# Altium footprint library PcbLib1.PcbLib: 2 footprints
Each footprint in its own frame and in the unit in brackets; x right, y up, seen from the top. Pads: shape width x height; smd on the part's side, far side on the other; paste and mask are expansions set on the pad; w line width, h text height; cw(c..) or ccw(c..) is an arc to the next point about the centre after c.
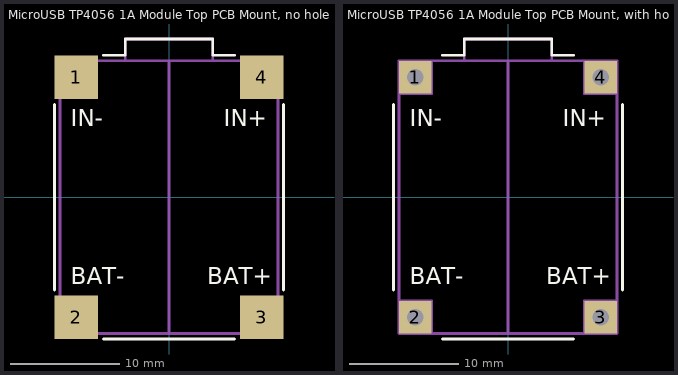
[diagram p0: the footprints below, top view; thin cyan lines are the x and y axes]

## MicroUSB TP4056 1A Module Top PCB Mount, no holes [mm] "MicroUSB TP4056 1A Module Mounted on the top/bottom of the PCB, no holes"
height 5
pads (4):
  rect 4x4 smd: 1(-8.5,11) 2(-8.5,-11) 3(8.5,-11) 4(8.5,11)
Top Overlay:
  lines w0.254: -10.5,-8.5 -10.5,8.5 ; -6,-13 6,-13 ; -6,13 -4,13 -4,14.5 4,14.5 4,13 6,13 ; 10.5,-8.5 10.5,8.5
  text "BAT-" at -9,-8 h1.52
  text "BAT+" at 3.5,-8 h1.52
  text "IN+" at 5,6.5 h1.52
  text "IN-" at -9,6.5 h1.52
Mechanical 13:
  lines w0.254: -10,-9.5 -7,-9.5 -7,-12.5 ; -10,9.5 -7,9.5 -7,12.5 ; -4,12.5 -4,14.5 4,14.5 4,12.5 ; 0,-12.5 0,12.5 ; 7,-12.5 7,-9.5 10,-9.5 ; 7,12.5 7,9.5 10,9.5 ; -10,-12.5 10,-12.5 10,12.5 -10,12.5 -10,-12.5
3D body: height 3.5, standoff 0, extent -4,12.5 4,14.5
3D body: height 3.5, standoff 0, extent -10,-12.5 10,12.5

## MicroUSB TP4056 1A Module Top PCB Mount, with holes [mm] "MicroUSB TP4056 1A Module Mounted on the top/bottom of the PCB, with holes"
height 5
pads (4):
  rect 3x3 hole 1.5: 1(-8.5,11) 2(-8.5,-11) 3(8.5,-11) 4(8.5,11)
Top Overlay:
  lines w0.254: -10.5,-8.5 -10.5,8.5 ; -6,-13 6,-13 ; -6,13 -4,13 -4,14.5 4,14.5 4,13 6,13 ; 10.5,-8.5 10.5,8.5
  text "BAT-" at -9,-8 h1.52
  text "BAT+" at 3.5,-8 h1.52
  text "IN+" at 5,6.5 h1.52
  text "IN-" at -9,6.5 h1.52
Mechanical 13:
  lines w0.254: -10,-9.5 -7,-9.5 -7,-12.5 ; -10,9.5 -7,9.5 -7,12.5 ; -4,12.5 -4,14.5 4,14.5 4,12.5 ; 0,-12.5 0,12.5 ; 7,-12.5 7,-9.5 10,-9.5 ; 7,12.5 7,9.5 10,9.5 ; -10,-12.5 10,-12.5 10,12.5 -10,12.5 -10,-12.5